# EAGLE library part NU32-MAX9918 (library Final_Project_lib)
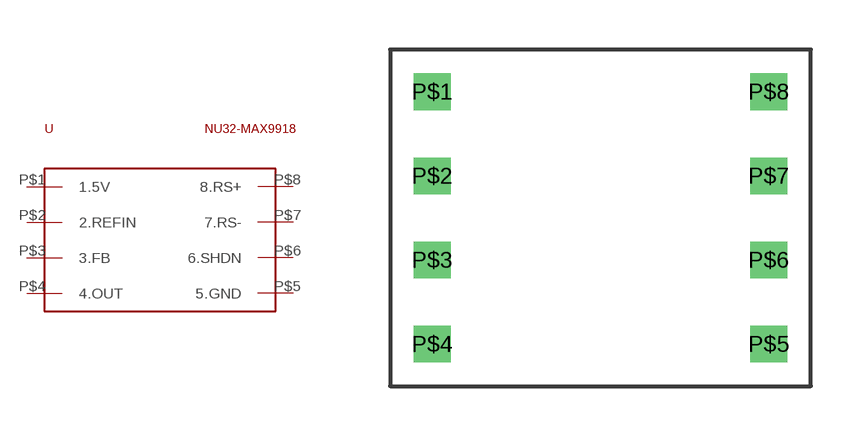
[diagram p9: symbol with the pads of NU32-MAX9918; footprint NU32-MAX9918]

Designator prefix -

## NU32-MAX9918  [NU32-MAX9918]
P$1  1.5V
P$2  2.REFIN
P$3  3.FB
P$4  4.OUT
P$5  5.GND
P$6  6.SHDN
P$7  7.RS-
P$8  8.RS+

## Footprint NU32-MAX9918 (pad centres in mm)
drill 0.6 square: P$1 -5.08,3.81; P$2 -5.08,1.27; P$3 -5.08,-1.27; P$4 -5.08,-3.81; P$5 5.08,-3.81; P$6 5.08,-1.27; P$7 5.08,1.27; P$8 5.08,3.81